# EAGLE library part HX1188 (library pulse-electronics)
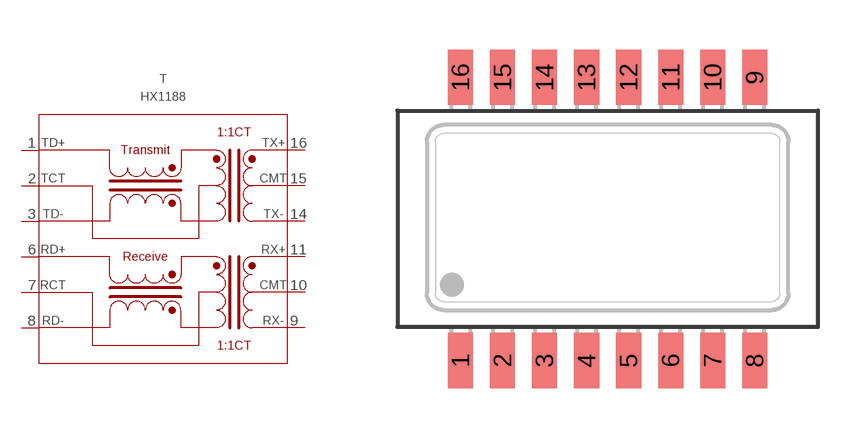
[diagram p0: symbol with the pads of HX1188FNL; footprint HX1188FNL]

Designator prefix T

## HX1188FNLT  [HX1188FNL]
1  1  pas
2  2  pas
3  3  pas
6  6  pas
7  7  pas
8  8  pas
9  9  pas
10  10  pas
11  11  pas
14  14  pas
15  15  pas
16  16  pas

## Footprint HX1188FNL (pad centres in mm)
smd 0.76 x 1.67: 1 -4.445,-4.216; 2 -3.175,-4.216; 3 -1.905,-4.216; 4 -0.635,-4.216; 5 0.635,-4.216; 6 1.905,-4.216; 7 3.175,-4.216; 8 4.445,-4.216; 9 4.445,4.334; 10 3.175,4.334; 11 1.905,4.334; 12 0.635,4.334; 13 -0.635,4.334; 14 -1.905,4.334; 15 -3.175,4.334; 16 -4.445,4.334